# EAGLE library part AD7923 (library monome-inc)
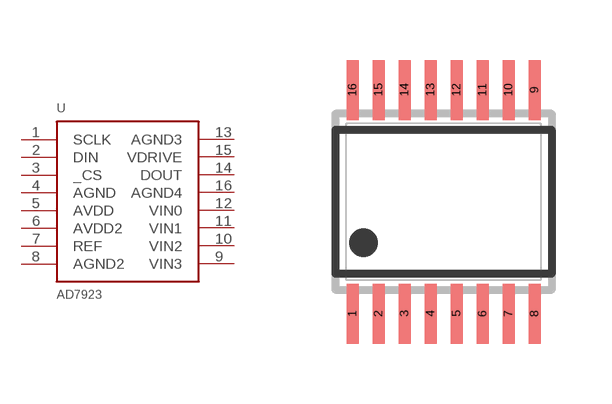
[diagram p9: symbol with the pads of TSSOP16; footprint TSSOP16]

Designator prefix -

## AD7923  [TSSOP16]
1  SCLK
2  DIN
3  _CS
4  AGND
5  AVDD
6  AVDD2
7  REF
8  AGND2
9  VIN3
10  VIN2
11  VIN1
12  VIN0
13  AGND3
14  DOUT
15  VDRIVE
16  AGND4

## Footprint TSSOP16 (pad centres in mm)
Thin Shrink Small Outline Plastic 16 body 4.5 x 4.9 mm
smd 0.3 x 1.5: 1 -2.275,-2.8; 2 -1.625,-2.8; 3 -0.975,-2.8; 4 -0.325,-2.8; 5 0.325,-2.8; 6 0.975,-2.8; 7 1.625,-2.8; 8 2.275,-2.8; 9 2.275,2.8; 10 1.625,2.8; 11 0.975,2.8; 12 0.325,2.8; 13 -0.325,2.8; 14 -0.975,2.8; 15 -1.625,2.8; 16 -2.275,2.8